# Altium footprint library Connector.PcbLib: 23 footprints (part 2 of 2)
Each footprint in its own frame and in the unit in brackets; x right, y up, seen from the top. Pads: shape width x height; smd on the part's side, far side on the other; paste and mask are expansions set on the pad; w line width, h text height; cw(c..) or ccw(c..) is an arc to the next point about the centre after c.
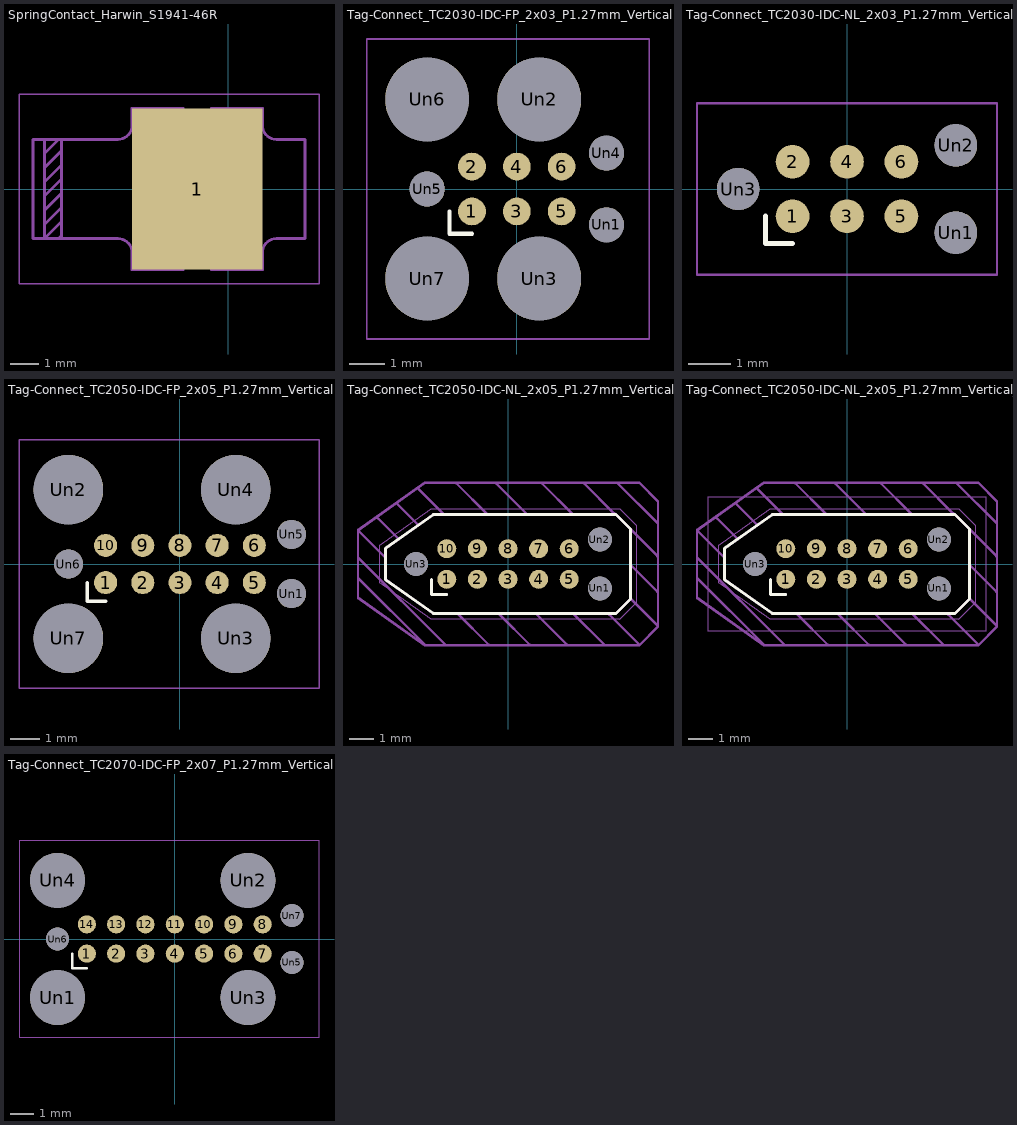
[diagram p1: the footprints below, top view; thin cyan lines are the x and y axes]

## SpringContact_Harwin_S1941-46R [mm]
pads (1):
  rect 4.6x5.7 smd: 1(-1.1,0)
Dwgs.User:
  lines w0.1: -6.49,-1.25 -5.89,-0.65 ; -6.49,-0.75 -5.89,-0.15 ; -6.49,-0.25 -5.89,0.35 ; -6.49,0.25 -5.89,0.85 ; -6.49,0.75 -5.89,1.35 ; -6.49,1.25 -5.99,1.75 ; -5.99,-1.75 -5.89,-1.65 ; -5.89,-1.15 -6.49,-1.75 ; -6.49,-1.75 -5.89,-1.75 -5.89,1.75 -6.49,1.75 -6.49,-1.75
F.CrtYd:
  lines w0.05: -7.39,-3.35 3.2,-3.35 3.2,3.35 -7.39,3.35 -7.39,-3.35
F.Fab:
  lines w0.1: -6.89,-1.75 -6.89,1.75 -3.9,1.75 ccw(c-3.9,2.25) -3.4,2.25 -3.4,2.85 -1.6,2.85 ccw(c-1.1,2.85) -0.6,2.85 1.2,2.85 1.2,2.25 ccw(c1.7,2.25) 1.7,1.75 2.7,1.75 2.7,-1.75 1.7,-1.75 ccw(c1.7,-2.25) 1.2,-2.25 1.2,-2.85 -0.6,-2.85 ccw(c-1.1,-2.85) -1.6,-2.85 -3.4,-2.85 -3.4,-2.25 ccw(c-3.9,-2.25) -3.9,-1.75 -6.89,-1.75
  text "'.Designator'" at -4.047,-0.84 h1

## Tag-Connect_TC2030-IDC-FP_2x03_P1.27mm_Vertical [mil]
pads (13):
  round 31 smd: 1(-50,-25) 2(-50,25) 3(0,-25) 4(0,25) 5(50,-25) 6(50,25)
  round 39 hole 39: Un1(100,-40) Un4(100,40) Un5(-100,0)
  round 93.5 hole 93.5: Un2(25,100) Un3(25,-100) Un6(-100,100) Un7(-100,-100)
F.SilkS:
  lines w4.72: -75,-25 -75,-50 -50,-50
F.CrtYd:
  lines w1.97: -167.32,-167.32 -167.32,167.32 147.64,167.32 147.64,-167.32 -167.32,-167.32
F.Fab:
  text "'.Designator'" at -159.32,-33.08 h39.37
Cmts.User:
  text "KEEPOUT" at -49.65,-10.63 h15.75

## Tag-Connect_TC2030-IDC-NL_2x03_P1.27mm_Vertical [mil]
pads (9):
  round 31 smd: 1(-50,-25) 2(-50,25) 3(0,-25) 4(0,25) 5(50,-25) 6(50,25)
  round 39 hole 39: Un1(100,-40) Un2(100,40) Un3(-100,0)
F.SilkS:
  lines w4.72: -75,-25 -75,-50 -50,-50
F.CrtYd:
  lines w1.97: -137.8,-78.74 -137.8,78.74 137.8,78.74 137.8,-78.74 -137.8,-78.74
F.Fab:
  text "'.Designator'" at -159.32,-33.08 h39.37
Cmts.User:
  text "KEEPOUT" at -49.65,-10.63 h15.75

## Tag-Connect_TC2050-IDC-FP_2x05_P1.27mm_Vertical [mil]
pads (17):
  round 31 smd: 1(-100,-25) 2(-50,-25) 3(0,-25) 4(50,-25) 5(100,-25) 6(100,25) 7(50,25) 8(0,25) 9(-50,25) 10(-100,25)
  round 39 hole 39: Un1(150,-40) Un5(150,40) Un6(-150,0)
  round 93.5 hole 93.5: Un2(-150,100) Un3(75,-100) Un4(75,100) Un7(-150,-100)
F.SilkS:
  lines w4.72: -125,-25 -125,-50 -100,-50
F.CrtYd:
  lines w1.97: -216.54,-167.32 187.01,-167.32 187.01,167.32 -216.54,167.32 -216.54,-167.32
F.Fab:
  text "'.Designator'" at -159.32,-33.08 h39.37
Cmts.User:
  text "KEEPOUT" at -49.65,-10.63 h15.75

## Tag-Connect_TC2050-IDC-NL_2x05_P1.27mm_Vertical [mil]
pads (13):
  round 31 smd: 1(-100,-25) 2(-50,-25) 3(0,-25) 4(50,-25) 5(100,-25) 6(100,25) 7(50,25) 8(0,25) 9(-50,25) 10(-100,25)
  round 39 hole 39: Un1(150,-40) Un2(150,40) Un3(-150,0)
F.SilkS:
  lines w4.72: -125,-25 -125,-50 -100,-50 ; -200,-25.59 -200,25.59 -122.05,80.71 176.38,80.71 200,57.09 200,-57.09 176.38,-80.71 -122.05,-80.71 -200,-25.59
Dwgs.User:
  lines w3.94: -244.09,-23.62 -135.83,-131.89 ; -244.09,9.84 -102.36,-131.89 ; -212.6,74.8 -179.13,41.34 ; -200.79,10.91 -245,55.12 ; -181.1,98.43 -147.64,64.96 ; -147.64,124.02 -104.33,80.71 ; -84.65,131.89 -33.46,80.71 ; -82.68,-80.71 -31.5,-131.89 ; -19.68,131.89 31.5,80.71 ; -13.78,-82.68 35.43,-131.89 ; 45.28,-80.71 96.46,-131.89 ; 55.12,131.89 106.3,80.71 ; 106.3,-80.71 157.48,-131.89 ; 124.02,131.89 173.23,82.68 175.2,80.71 ; 165.35,-82.68 214.57,-131.89 ; 179.13,131.89 244.09,66.93 ; 200.79,-57.09 244.09,-100.39 ; 200.79,-1.97 244.09,-45.28 ; 244.09,12.99 200,57.09 ; -245,55.12 -245,-55.12 -135.83,-132.68 214.69,-132.68 245,-102.36 245,102.36 214.69,132.68 -135.83,132.68 -245,55.12 ; 200,57.09 200,-57.09 176.38,-80.71 -122.05,-80.71 -200,-25.59 -200,25.59 -122.05,80.71 176.38,80.71 200,57.09
F.CrtYd:
  lines w1.97: -209.84,-30.32 -209.84,30.32 -125.59,90.55 182.28,90.55 209.84,62.99 209.84,-62.99 182.28,-90.55 -125.59,-90.55 -209.84,-30.32
F.Fab:
  text "'.Designator'" at -159.32,-33.08 h39.37
Cmts.User:
  text "6.35mm Z-KEEPOUT" at -107.67,-123.03 h19.68
  text "6.35mm Z-KEEPOUT" at -107.67,93.51 h19.68
  text "KEEPOUT" at -49.65,-10.63 h15.75

## Tag-Connect_TC2050-IDC-NL_2x05_P1.27mm_Vertical_with_bottom_clip [mil]
pads (13):
  round 31 smd: 1(-100,-25) 2(-50,-25) 3(0,-25) 4(50,-25) 5(100,-25) 6(100,25) 7(50,25) 8(0,25) 9(-50,25) 10(-100,25)
  round 39 hole 39: Un1(150,-40) Un2(150,40) Un3(-150,0)
F.SilkS:
  lines w4.72: -125,-25 -125,-50 -100,-50 ; -200,-25.59 -200,25.59 -122.05,80.71 176.38,80.71 200,57.09 200,-57.09 176.38,-80.71 -122.05,-80.71 -200,-25.59
B.SilkS:
  lines w4.72: -215.35,-100 -215.35,100 215.35,100 215.35,-100 -215.35,-100
Dwgs.User:
  lines w3.94: -244.09,-23.62 -135.83,-131.89 ; -244.09,9.84 -102.36,-131.89 ; -212.6,74.8 -179.13,41.34 ; -200.79,10.91 -245,55.12 ; -181.1,98.43 -147.64,64.96 ; -147.64,124.02 -104.33,80.71 ; -84.65,131.89 -33.46,80.71 ; -82.68,-80.71 -31.5,-131.89 ; -19.68,131.89 31.5,80.71 ; -13.78,-82.68 35.43,-131.89 ; 45.28,-80.71 96.46,-131.89 ; 55.12,131.89 106.3,80.71 ; 106.3,-80.71 157.48,-131.89 ; 124.02,131.89 173.23,82.68 175.2,80.71 ; 165.35,-82.68 214.57,-131.89 ; 179.13,131.89 244.09,66.93 ; 200.79,-57.09 244.09,-100.39 ; 200.79,-1.97 244.09,-45.28 ; 244.09,12.99 200,57.09 ; -245,55.12 -245,-55.12 -135.83,-132.68 214.69,-132.68 245,-102.36 245,102.36 214.69,132.68 -135.83,132.68 -245,55.12 ; 200,57.09 176.38,80.71 -122.05,80.71 -200,25.59 -200,-25.59 -122.05,-80.71 176.38,-80.71 200,-57.09 200,57.09
B.CrtYd:
  lines w1.97: -226.38,-109.84 226.38,-109.84 226.38,109.84 -226.38,109.84 -226.38,-109.84
F.CrtYd:
  lines w1.97: -209.84,-30.32 -125.59,-90.55 182.28,-90.55 209.84,-62.99 209.84,62.99 182.28,90.55 -125.59,90.55 -209.84,30.32 -209.84,-30.32
F.Fab:
  text "'.Designator'" at -159.32,-33.08 h39.37
Cmts.User:
  text "KEEPOUT" at -49.65,-10.63 h15.75
  text "6.35mm Z-KEEPOUT" at -107.67,-123.03 h19.68
  text "6.35mm Z-KEEPOUT" at -107.67,93.51 h19.68

## Tag-Connect_TC2070-IDC-FP_2x07_P1.27mm_Vertical [mil]
pads (21):
  round 31 smd: 1(-150,-25) 2(-100,-25) 3(-50,-25) 4(0,-25) 5(50,-25) 6(100,-25) 7(150,-25) 8(150,25) 9(100,25) 10(50,25) 11(0,25) 12(-50,25) 13(-100,25) 14(-150,25)
  round 93.5 hole 93.5: Un1(-200,-100) Un2(125,100) Un3(125,-100) Un4(-200,100)
  round 39 hole 39: Un5(200,-40) Un6(-200,0) Un7(200,40)
F.SilkS:
  lines w4.72: -175,-25 -175,-50 -150,-50
F.CrtYd:
  lines w1.97: -265.75,-167.32 246.06,-167.32 246.06,167.32 -265.75,167.32 -265.75,-167.32
F.Fab:
  text "'.Designator'" at -159.32,-33.08 h39.37
Cmts.User:
  text "KEEPOUT" at -49.65,-10.63 h15.75